# Altium schematic symbol library VL811P.SchLib: 1 symbol
Pins are listed as number, name and electrical type; pins without a type are passive.

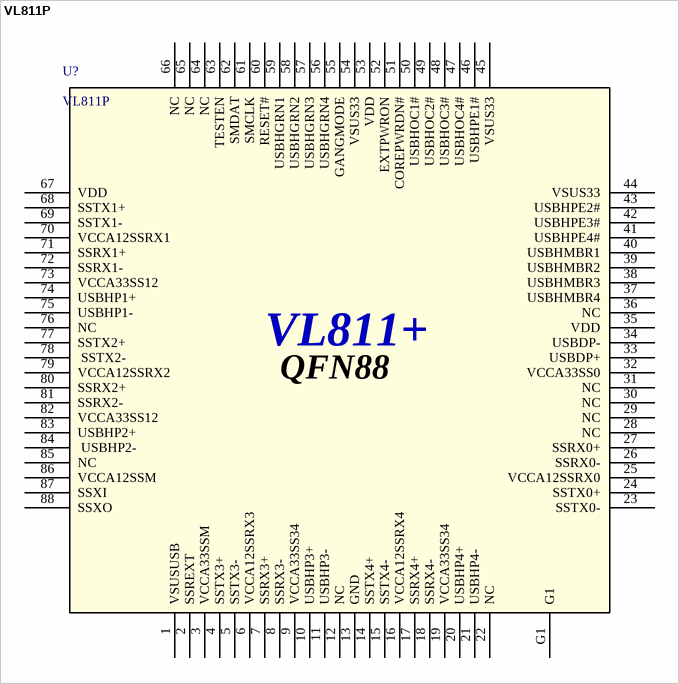
[diagram p0: symbol VL811P]

## VL811P
designator U?
USB 3.0 HUB Controller
footprint QFN88 (Footprint not found)
pins: 1 VSUSUSB, 2 SSREXT, 3 VCCA33SSM (power), 4 SSTX3+, 5 SSTX3-, 6 VCCA12SSRX3 (power), 7 SSRX3+, 8 SSRX3-, 9 VCCA33SS34 (power), 10 USBHP3+, 11 USBHP3-, 12 NC, 13 GND (power), 14 SSTX4+, 15 SSTX4-, 16 VCCA12SSRX4 (power), 17 SSRX4+, 18 SSRX4-, 19 VCCA33SS34 (power), 20 USBHP4+, 21 USBHP4-, 22 NC, 23 SSTX0-, 24 SSTX0+, 25 VCCA12SSRX0 (power), 26 SSRX0-, 27 SSRX0+, 28 NC, 29 NC, 30 NC, 31 NC, 32 VCCA33SS0 (power), 33 USBDP+, 34 USBDP-, 35 VDD (power), 36 NC, 37 USBHMBR4, 38 USBHMBR3, 39 USBHMBR2, 40 USBHMBR1, 41 USBHPE4#, 42 USBHPE3#, 43 USBHPE2#, 44 VSUS33 (power), 45 VSUS33 (power), 46 USBHPE1#, 47 USBHOC4#, 48 USBHOC3#, 49 USBHOC2#, 50 USBHOC1#, 51 COREPWRDN#, 52 EXTPWRON, 53 VDD (power), 54 VSUS33 (power), 55 GANGMODE, 56 USBHGRN4, 57 USBHGRN3, 58 USBHGRN2, 59 USBHGRN1, 60 RESET#, 61 SMCLK, 62 SMDAT, 63 TESTEN, 64 NC, 65 NC, 66 NC, 67 VDD (power), 68 SSTX1+, 69 SSTX1-, 70 VCCA12SSRX1 (power), 71 SSRX1+, 72 SSRX1-, 73 VCCA33SS12 (power), 74 USBHP1+, 75 USBHP1-, 76 NC, 77 SSTX2+, 78  SSTX2-, 79 VCCA12SSRX2 (power), 80 SSRX2+, 81 SSRX2-, 82 VCCA33SS12 (power), 83 USBHP2+, 84  USBHP2-, 85 NC, 86 VCCA12SSM (power), 87 SSXI, 88 SSXO, G1 (power)
text: VL811+; QFN88